# EAGLE library part 6PIN-HEADER (library StevenV1)
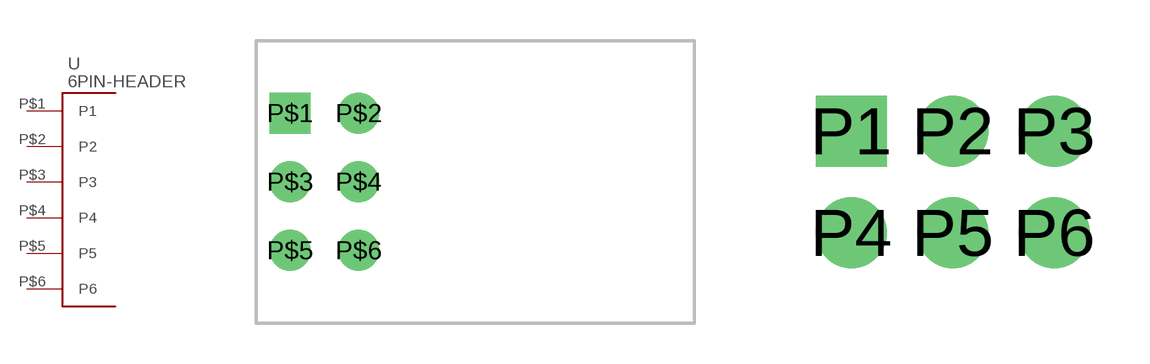
[diagram p4: symbol with the pads of RIGHTANGLE-6PIN; footprints RIGHTANGLE-6PIN, 6PINHEADER]

Designator prefix -

## 6PIN-HEADERRIGHT-ANGLE  [RIGHTANGLE-6PIN]
P$1  P1
P$2  P2
P$3  P3
P$4  P4
P$5  P5
P$6  P6

## 6PIN-HEADERSTANDARD  [6PINHEADER]
P1  P1
P2  P2
P3  P3
P4  P4
P5  P5
P6  P6

## Footprint RIGHTANGLE-6PIN (pad centres in mm)
drill 0.9 pad 1.524 square: P$1 -1.27,2.54
drill 0.9 pad 1.524: P$2 1.27,2.54; P$3 -1.27,0; P$4 1.27,0; P$5 -1.27,-2.54; P$6 1.27,-2.54

## Footprint 6PINHEADER (pad centres in mm)
drill 1.1 pad 1.778 square: P1 0,0
drill 1.1 pad 1.778: P2 2.54,0; P3 5.08,0; P4 0,-2.54; P5 2.54,-2.54; P6 5.08,-2.54